# Altium schematic symbol library ANALOGDEVICES.SchLib: 7 symbols
Pins are listed as number, name and electrical type; pins without a type are passive.

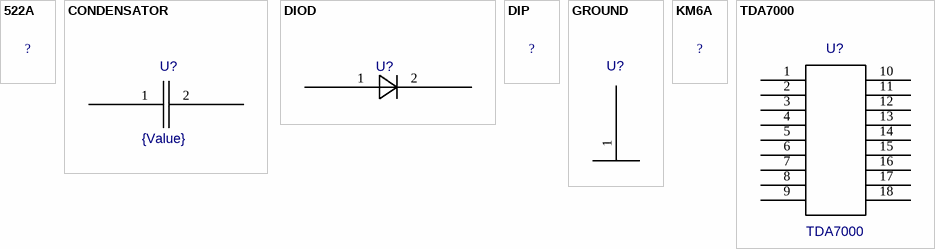
[diagram p0: symbols 522A to TDA7000]

## 522A
designator ?  (value not drawn)
Value: *
footprint 522A

## CONDENSATOR
designator U?  value {Value}  (hidden comment: *)
footprint KM6A
pins: 1, 2

## DIOD
designator U?  (value not drawn)
Value: *
footprint 522A
pins: 1, 2

## DIP
designator ?  (value not drawn)
Value: *
footprint DIP

## GROUND
designator U?  (value not drawn)
Value: *
pins: 1

## KM6A
designator ?  (value not drawn)
Value: *
footprint KM6A

## TDA7000
designator U?
Value: *
footprint DIP
pins: 1, 2, 3, 4, 5, 6, 7, 8, 9, 10, 11, 12, 13, 14, 15, 16, 17, 18